# Altium footprint library StandardTest.PcbLib: 10 footprints
Each footprint in its own frame and in the unit in brackets; x right, y up, seen from the top. Pads: shape width x height; smd on the part's side, far side on the other; paste and mask are expansions set on the pad; w line width, h text height; cw(c..) or ccw(c..) is an arc to the next point about the centre after c.
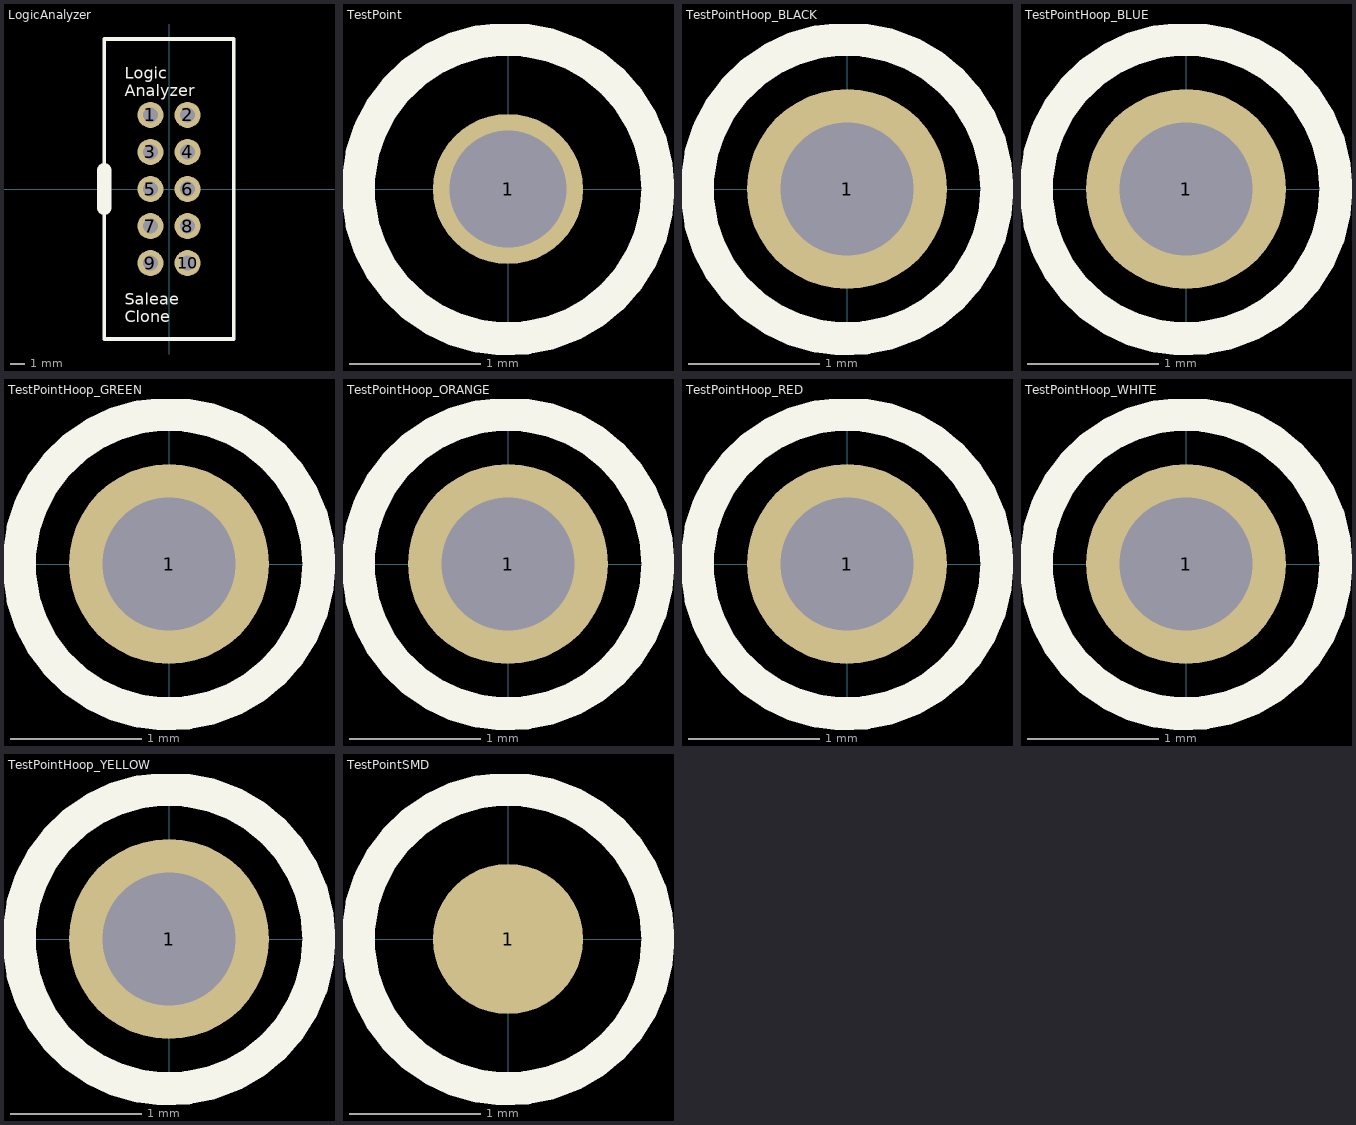
[diagram p0: the footprints below, top view; thin cyan lines are the x and y axes]

## LogicAnalyzer [mil]
pads (10):
  round 70 hole 40: 1(-50,200) 2(50,200) 3(-50,100) 4(50,100) 5(-50,0) 6(50,0) 7(-50,-100) 8(50,-100) 9(-50,-200) 10(50,-200)
Top Overlay:
  lines w10: -175,-405 -175,405 175,405 175,-405 -175,-405
  lines w40: -175,-50 -175,50
  text "Logic / Analyzer" at -120,250 h32
  text "Saleae / Clone" at -120,-360 h32
3D body "DS1013-10S (IDC-10MS CONNFLY).stp": height 359.33, standoff -136.73, extent -175.39,-403.54 175,403.54

## TestPoint [mil]
pads (1):
  round 45 hole 35: 1(0,0)
Top Overlay:
  circle w10: c0,0 r45

## TestPointHoop_BLACK [mil]
pads (1):
  round 60 hole 40: 1(0,0)
Top Overlay:
  circle w10: c0,0 r45
3D body: height 192.99, standoff 67.01, extent -6.89,-62.87 6.89,62.87
3D body: height 318.9, standoff 0, extent -39.06,10 -39.06,10
3D body: height 78, standoff 0, extent -39.06,-39.29 39.37,39.3

## TestPointHoop_BLUE [mil]
pads (1):
  round 60 hole 40: 1(0,0)
Top Overlay:
  circle w10: c0,0 r45
3D body: height 192.99, standoff 67.01, extent -6.89,-62.87 6.89,62.87
3D body: height 318.9, standoff 0, extent -39.06,10 -39.06,10
3D body: height 78, standoff 0, extent -39.06,-39.29 39.37,39.3

## TestPointHoop_GREEN [mil]
pads (1):
  round 60 hole 40: 1(0,0)
Top Overlay:
  circle w10: c0,0 r45
3D body: height 78, standoff 0, extent -39.06,-39.29 39.37,39.3
3D body: height 318.9, standoff 0, extent -39.06,10 -39.06,10
3D body: height 192.99, standoff 67.01, extent -6.89,-62.87 6.89,62.87

## TestPointHoop_ORANGE [mil]
pads (1):
  round 60 hole 40: 1(0,0)
Top Overlay:
  circle w10: c0,0 r45
3D body: height 78, standoff 0, extent -39.06,-39.29 39.37,39.29
3D body: height 192.99, standoff 67.01, extent -6.89,-62.87 6.89,62.87

## TestPointHoop_RED [mil]
pads (1):
  round 60 hole 40: 1(0,0)
Top Overlay:
  circle w10: c0,0 r45
3D body: height 78, standoff 0, extent -39.06,-39.29 39.37,39.3
3D body: height 318.9, standoff 0, extent -39.06,10 -39.06,10
3D body: height 192.99, standoff 67.01, extent -6.89,-62.87 6.89,62.87

## TestPointHoop_WHITE [mil]
pads (1):
  round 60 hole 40: 1(0,0)
Top Overlay:
  circle w10: c0,0 r45
3D body: height 78, standoff 0, extent -39.06,-39.29 39.37,39.3
3D body: height 318.9, standoff 0, extent -39.06,10 -39.06,10
3D body: height 192.99, standoff 67.01, extent -6.89,-62.87 6.89,62.87

## TestPointHoop_YELLOW [mil]
pads (1):
  round 60 hole 40: 1(0,0)
Top Overlay:
  circle w10: c0,0 r45
3D body: height 78, standoff 0, extent -39.06,-39.29 39.37,39.29
3D body: height 192.99, standoff 67.01, extent -6.89,-62.87 6.89,62.87

## TestPointSMD [mil]
pads (1):
  round 45 smd: 1(0,0)
Top Overlay:
  circle w10: c0,0 r45